# Altium schematic symbol library LL103A.SchLib: 3 symbols
Pins are listed as number, name and electrical type; pins without a type are passive.

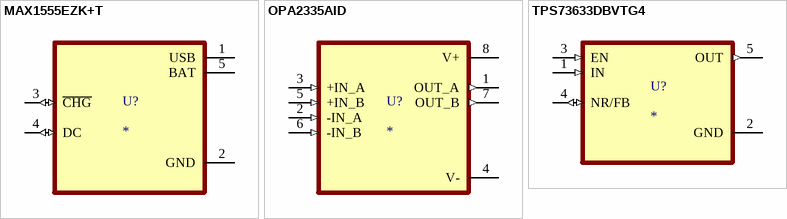
[diagram p0: symbols MAX1555EZK+T to TPS73633DBVTG4]

## MAX1555EZK+T
designator U?
MF: {'manufacturer': u'Analog Devices'}; MP: MAX1555EZK+T; Package: None; Price: None; Value: *; Availability: Unavailable
footprint SOT95P275X110-5N
pins: 1 USB (power), 2 GND (power), 3 ~{CHG} (io), 4 DC (io), 5 BAT (power)

## OPA2335AID
designator U?
MF: {'manufacturer': u'Texas Instruments'}; MP: OPA2335AID; Package: None; Price: None; Value: *; Availability: Unavailable
footprint SOIC127P599X175-8N
pins: 1 OUT_A (out), 2 -IN_A (in), 3 +IN_A (in), 4 V- (power), 5 +IN_B (in), 6 -IN_B (in), 7 OUT_B (out), 8 V+ (power)

## TPS73633DBVTG4
designator U?
MF: {'manufacturer': u'Texas Instruments'}; MP: TPS73633DBVTG4; Package: None; Price: None; Value: *; Availability: Unavailable
footprint SOT95P280X145-5N
pins: 1 IN (in), 2 GND (power), 3 EN (in), 4 NR/FB (io), 5 OUT (out)